# EAGLE library part TLC555CDR (library texas-instruments.2)
Low Power Timer Features: Very Low Power Consumption 1 mW Typ at VDD = 5 V Capable of Operation in Astable Mode CMOS Output Capable of Swinging Rail to Rail High Output-Current Capability Sink 100 mA Typ Source 10 mA Typ Output Fully Compatible With CMOS, TTL, and MOS Low Supply Current Reduces Spikes During Output Transitions Single-Supply Operation From 2 V to 15 V Functionally Interchangeable With the NE555; Has Same Pinout ESD Protection Exceeds 2000 V Per MIL-STD-883C, Method 3015.2 Available in Q-Temp Automotive High Reliability Automotive Applications Configuration Control/Print Support Qualification to Automotive Standards http://www.ti.com/product/tlc555
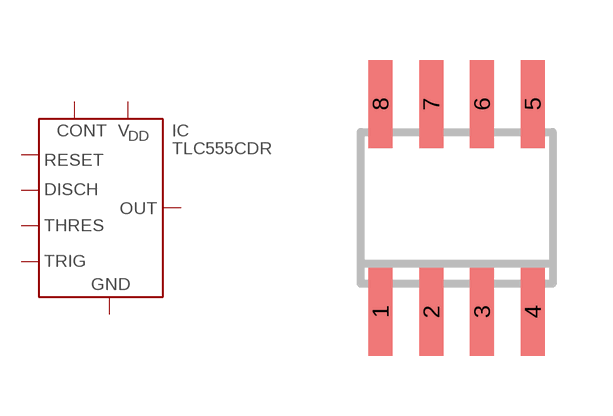
[diagram p0: symbol with the pads of SO08; footprint SO08]

Designator prefix IC

## TLC555CDR  [SO08]
1  GND
2  TRIG
3  OUT
4  RESET
5  CONT
6  THRES
7  DISCH
8  VDD

## Footprint SO08 (pad centres in mm)
Small Outline Package 8 NS Package M08A
smd 0.6 x 2.2: 1 -1.905,-2.6; 2 -0.635,-2.6; 3 0.635,-2.6; 4 1.905,-2.6; 5 1.905,2.6; 6 0.635,2.6; 7 -0.635,2.6; 8 -1.905,2.6